# Altium schematic symbol library SCH - DIODES - CRD.SCHLIB: 1 symbol
Pins are listed as number, name and electrical type; pins without a type are passive.

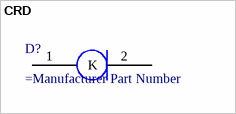
[diagram p0: symbol CRD]

## CRD
designator D?
pins: 1 A, 2 K